# Altium schematic symbol library WL-SWTP_5630.SchLib: 5 symbols
Pins are listed as number, name and electrical type; pins without a type are passive.

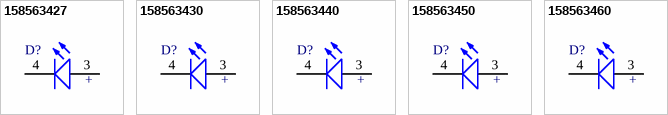
[diagram p0: symbols 158563427 to 158563460]

## 158563427
designator D?
WL-SWTP SMD White Top view PLCC, size 5630, Sunrise; Part Number: 158563427; Forward Voltage: 3 V; Viewing Angle: 120°; Luminous Flux: 34 lm; Color Rendering Index: 85; Published Date: Jan 2017; Publisher: Wurth Elektronik; ComponentLink1Description: Manufacturer; ComponentLink1URL: http://www.we-online.de; ComponentLink2Description: Datasheet; ComponentLink2URL: http://katalog.we-online.de/led/datasheet/158563427.pdf; Size: 5630; Emitting Color: Sunrise
footprint WL-SWTP_5630
pins: 3 A, 4 K
text: +

## 158563430
designator D?
WL-SWTP SMD White Top view PLCC, size 5630, Warm White; Part Number: 158563430; Forward Voltage: 3 V; Viewing Angle: 120°; Luminous Flux: 34 lm; Color Rendering Index: 85; Published Date: Jan 2017; Publisher: Wurth Elektronik; ComponentLink1Description: Manufacturer; ComponentLink1URL: http://www.we-online.de; ComponentLink2Description: Datasheet; ComponentLink2URL: http://katalog.we-online.de/led/datasheet/158563430.pdf; Size: 5630; Emitting Color: Warm White
footprint WL-SWTP_5630 (SMD White Top view PLCC, body 5.4x3.0)
pins: 3 A, 4 K
text: +

## 158563440
designator D?
WL-SWTP SMD White Top view PLCC, size 5630, Moonlight; Part Number: 158563440; Forward Voltage: 3 V; Viewing Angle: 120°; Luminous Flux: 36 lm; Color Rendering Index: 85; Published Date: Jan 2017; Publisher: Wurth Elektronik; ComponentLink1Description: Manufacturer; ComponentLink1URL: http://www.we-online.de; ComponentLink2Description: Datasheet; ComponentLink2URL: http://katalog.we-online.de/led/datasheet/158563440.pdf; Size: 5630; Emitting Color: Moonlight
footprint WL-SWTP_5630
pins: 3 A, 4 K
text: +

## 158563450
designator D?
WL-SWTP SMD White Top view PLCC, size 5630, Daylight; Part Number: 158563450; Forward Voltage: 3 V; Viewing Angle: 120°; Luminous Flux: 39 lm; Color Rendering Index: 85; Published Date: Jan 2017; Publisher: Wurth Elektronik; ComponentLink1Description: Manufacturer; ComponentLink1URL: http://www.we-online.de; ComponentLink2Description: Datasheet; ComponentLink2URL: http://katalog.we-online.de/led/datasheet/158563450.pdf; Size: 5630; Emitting Color: Daylight
footprint WL-SWTP_5630
pins: 3 A, 4 K
text: +

## 158563460
designator D?
WL-SWTP SMD White Top view PLCC, size 5630, Cool White; Part Number: 158563460; Forward Voltage: 3 V; Viewing Angle: 120°; Luminous Flux: 39 lm; Color Rendering Index: 90; Published Date: Jan 2017; Publisher: Wurth Elektronik; ComponentLink1Description: Manufacturer; ComponentLink1URL: http://www.we-online.de; ComponentLink2Description: Datasheet; ComponentLink2URL: http://katalog.we-online.de/led/datasheet/158563460.pdf; Size: 5630; Emitting Color: Cool White
footprint WL-SWTP_5630
pins: 3 A, 4 K
text: +